# Altium schematic symbol library Controller.SchLib: 2 symbols
Pins are listed as number, name and electrical type; pins without a type are passive.

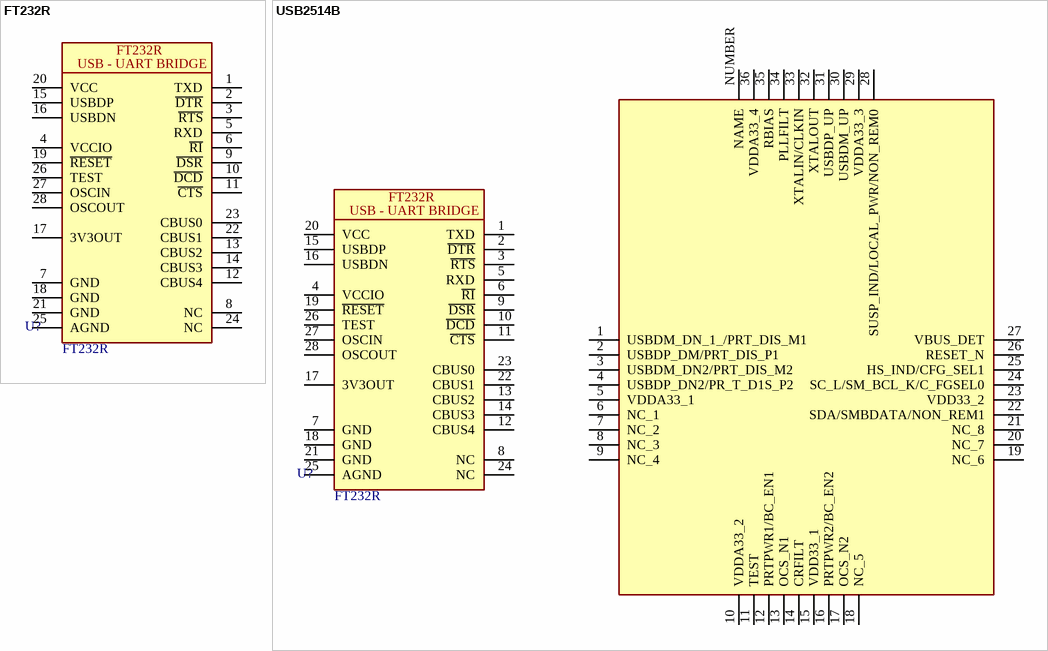
[diagram p0: symbols FT232R to USB2514B]

## FT232R
designator U?  value FT232R
USB to Serial UART, USB to UART, 1.8 → 5 V, 28-Pin SSOP; Manufacturer 1: *; Manufacturer Part Number 1: *
footprint SOP65P780X200-28M (SOP, 28-Leads, Body 10.28x5.30mm, Pitch 0.65mm, IPC Low Density)
pins: 1 TXD, 2 ~{DTR}, 3 ~{RTS}, 4 VCCIO, 5 RXD, 6 ~{RI}, 7 GND, 8 NC, 9 ~{DSR}, 10 ~{DCD}, 11 ~{CTS}, 12 CBUS4, 13 CBUS2, 14 CBUS3, 15 USBDP, 16 USBDN, 17 3V3OUT, 18 GND, 19 ~{RESET}, 20 VCC, 21 GND, 22 CBUS1, 23 CBUS0, 24 NC, 25 AGND, 26 TEST, 27 OSCIN, 28 OSCOUT
text: USB - UART BRIDGE

## USB2514B
designator U?  value FT232R
IC HUB CTLR 4PORT USB 2.0 HS 36S; Manufacturer 1: *; Manufacturer Part Number 1: *
footprint SOP65P780X200-28M (SOP, 28-Leads, Body 10.28x5.30mm, Pitch 0.65mm, IPC Low Density)
pins: 1 TXD, 1 USBDM_DN_1_/PRT_DIS_M1, 2 ~{DTR}, 2 USBDP_DM/PRT_DIS_P1, 3 ~{RTS}, 3 USBDM_DN2/PRT_DIS_M2, 4 VCCIO, 4 USBDP_DN2/PR_T_D1S_P2, 5 RXD, 5 VDDA33_1, 6 ~{RI}, 6 NC_1, 7 GND, 7 NC_2, 8 NC, 8 NC_3, 9 ~{DSR}, 9 NC_4, 10 ~{DCD}, 10 VDDA33_2, 11 ~{CTS}, 11 TEST, 12 CBUS4, 12 PRTPWR1/BC_EN1, 13 CBUS2, 13 OCS_N1, 14 CBUS3, 14 CRFILT, 15 USBDP, 15 VDD33_1, 16 USBDN, 16 PRTPWR2/BC_EN2, 17 3V3OUT, 17 OCS_N2, 18 GND, 18 NC_5, 19 ~{RESET}, 19 NC_6, 20 VCC, 20 NC_7, 21 GND, 21 NC_8, 22 CBUS1, 22 SDA/SMBDATA/NON_REM1, 23 CBUS0, 23 VDD33_2, 24 NC, 24 SC_L/SM_BCL_K/C_FGSEL0, 25 AGND, 25 HS_IND/CFG_SEL1, 26 TEST, 26 RESET_N, 27 OSCIN, 27 VBUS_DET, 28 OSCOUT, 28 SUSP_IND/LOCAL_PWR/NON_REM0, 29 VDDA33_3, 30 USBDM_UP, 31 USBDP_UP, 32 XTALOUT, 33 XTALIN/CLKIN, 34 PLLFILT, 35 RBIAS, 36 VDDA33_4, NUMBER NAME
text: USB - UART BRIDGE